# Altium integrated library SM06B-GHS-TB.IntLib: 1 symbol
Pins are listed as number, name and electrical type; pins without a type are passive.

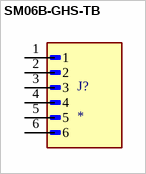
[diagram p0: symbol SM06B-GHS-TB]

## SM06B-GHS-TB
designator J?
Connector Header Surface Mount, Right Angle 6 position 0.049 (1.25mm); MF: JST Sales; MP: SM06B-GHS-TB; SnapEDA_Link: https://www.snapeda.com/parts/SM06B-GHS-TB/JST/view-part/?ref=snap; Package: None; Value: *; Check_prices: https://www.snapeda.com/parts/SM06B-GHS-TB/JST/view-part/?ref=eda
footprint JST_SM06B-GHS-TB
pins: 1, 2, 3, 4, 5, 6